# Altium schematic symbol library Audio_BT_module.SchLib: 1 symbol
Pins are listed as number, name and electrical type; pins without a type are passive.

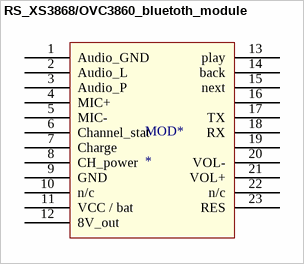
[diagram p0: symbol RS_XS3868/OVC3860_bluetoth_module]

## RS_XS3868/OVC3860_bluetoth_module
designator MOD*
footprint RS_BT_audio_module
pins: 1 Audio_GND, 2 Audio_L, 3 Audio_P, 4 MIC+, 5 MIC-, 6 Channel_stat, 7 Charge, 8 CH_power, 9 GND, 10 n/c, 11 VCC / bat, 12 8V_out, 13 play, 14 back, 15 next, 16, 17 TX, 18 RX, 19, 20 VOL-, 21 VOL+, 22 n/c, 23 RES